# EAGLE library part A2610 (library KaiBader)
Agilent ADNS-2610 Optical Mouse Sensor
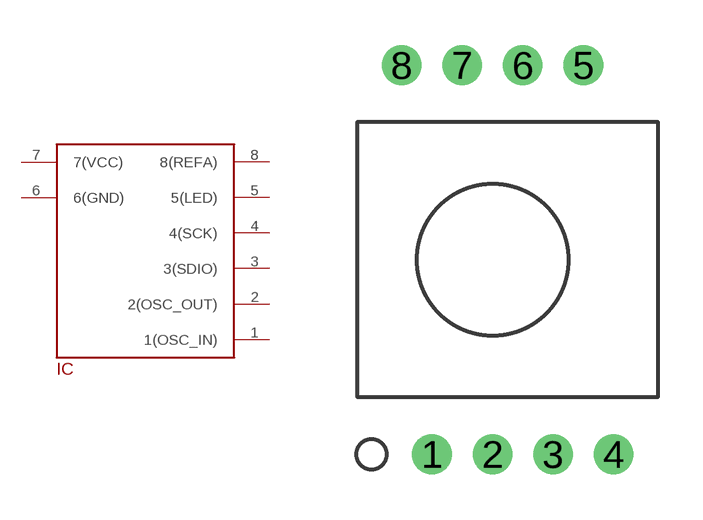
[diagram p0: symbol with the pads of A2610; footprint A2610]

Designator prefix IC

## A2610  [A2610]
1  1(OSC_IN)
2  2(OSC_OUT)
3  3(SDIO)
4  4(SCK)
5  5(LED)
6  6(GND)  pwr
7  7(VCC)  pwr
8  8(REFA)

## Footprint A2610 (pad centres in mm)
drill 0.8: 1 2.44,-1.89; 2 4.44,-1.89; 3 6.44,-1.89; 4 8.44,-1.89; 5 7.44,10.96; 6 5.44,10.96; 7 3.44,10.96; 8 1.44,10.96